# EAGLE library part PIC_P2V6 (library HedgehogLib)
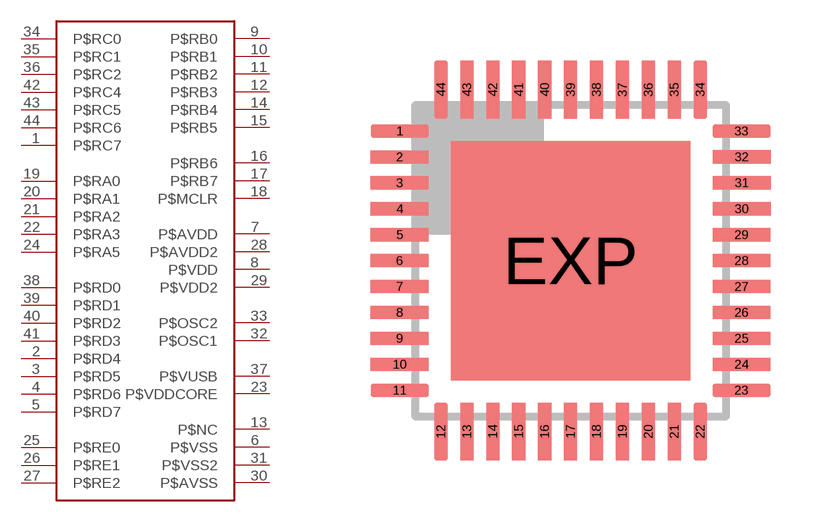
[diagram p3: symbol with the pads of QFN44ML8X8; footprint QFN44ML8X8]

Designator prefix -

## PIC_P2V6  [QFN44ML8X8]
1  P$RC7
2  P$RD4
3  P$RD5  pwr
4  P$RD6
5  P$RD7  pwr
6  P$VSS  in
7  P$AVDD  in
8  P$VDD
9  P$RB0
10  P$RB1
11  P$RB2  pwr
12  P$RB3
13  P$NC
14  P$RB4
15  P$RB5
16  P$RB6  pwr
17  P$RB7  pwr
18  P$MCLR  in
19  P$RA0
20  P$RA1
21  P$RA2
22  P$RA3
23  P$VDDCORE
24  P$RA5
25  P$RE0
26  P$RE1  in
27  P$RE2
28  P$AVDD2
29  P$VDD2
30  P$AVSS  in
31  P$VSS2  out
32  P$OSC1
33  P$OSC2
34  P$RC0
35  P$RC1
36  P$RC2
37  P$VUSB
38  P$RD0
39  P$RD1
40  P$RD2
41  P$RD3
42  P$RC4
43  P$RC5
44  P$RC6

## Footprint QFN44ML8X8 (pad centres in mm)
44-Lead Plastic Quad Flat No Lead Package (ML) 8x8 mm Body (QFN) Source: http://ww1.microchip.com/downloads/en/devicedoc/39632c.pdf
smd 1.45 x 0.33: 1 -4.282,3.25; 2 -4.285,2.6; 3 -4.285,1.95; 4 -4.285,1.3; 5 -4.285,0.65; 6 -4.287,0; 7 -4.285,-0.649; 8 -4.287,-1.3; 9 -4.287,-1.949; 10 -4.285,-2.6; 11 -4.285,-3.25; 23 4.285,-3.25; 24 4.287,-2.6; 25 4.287,-1.95; 26 4.287,-1.3; 27 4.287,-0.652; 28 4.287,0; 29 4.287,0.65; 30 4.292,1.3; 31 4.293,1.953; 32 4.293,2.602; 33 4.285,3.25
smd 0.33 x 1.45: 12 -3.25,-4.288; 13 -2.6,-4.287; 14 -1.949,-4.287; 15 -1.3,-4.287; 16 -0.65,-4.287; 17 0,-4.287; 18 0.65,-4.287; 19 1.3,-4.287; 20 1.95,-4.287; 21 2.6,-4.287; 22 3.25,-4.285; 34 3.25,4.288; 35 2.6,4.287; 36 1.95,4.287; 37 1.3,4.285; 38 0.65,4.287; 39 0,4.287; 40 -0.649,4.287; 41 -1.3,4.287; 42 -1.949,4.287; 43 -2.6,4.287; 44 -3.25,4.288
smd 6 x 6: EXP 0,0